# Altium footprint library PCB - CONNECTOR - SAMTEC - SAMTEC SSW-104-03-T-S.PCBLIB: 1 footprints
Each footprint in its own frame and in the unit in brackets; x right, y up, seen from the top. Pads: shape width x height; smd on the part's side, far side on the other; paste and mask are expansions set on the pad; w line width, h text height; cw(c..) or ccw(c..) is an arc to the next point about the centre after c.
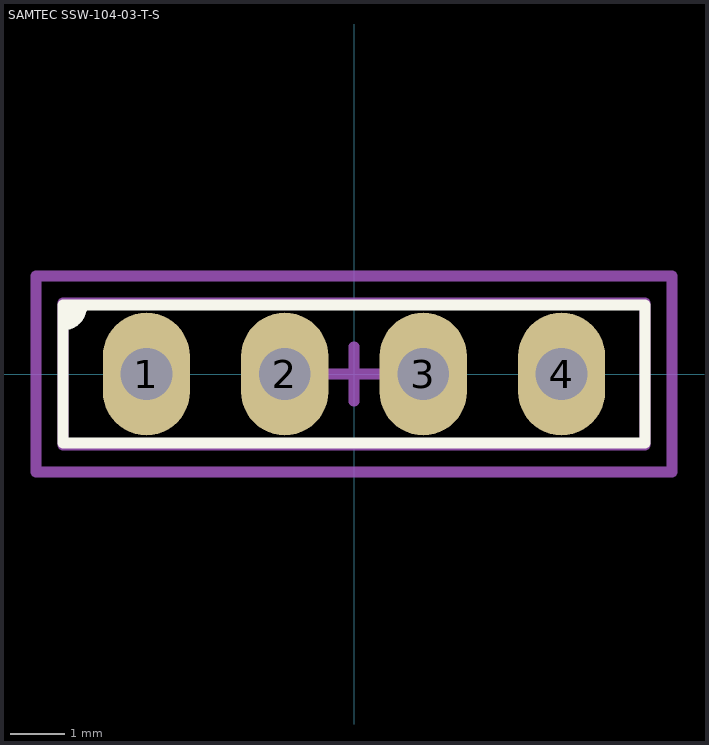
[diagram p0: the footprint, top view; thin cyan lines are the x and y axes]

## SAMTEC SSW-104-03-T-S [mm]
height 8.51
pads (4):
  oval 1.6x2.25 hole 0.95: 1(-3.81,0) 2(-1.27,0) 3(1.27,0) 4(3.81,0)
Top Overlay:
  region: -5.34,1.27 -5,1.27 -5,1.1 -5.2,0.9 -5.34,0.9
  lines w0.2: -5.34,0.9 ccw(c-5.34,1.24) -5,1.24 -5,1.27 ; -5.34,-1.27 5.34,-1.27 5.34,1.27 -5.34,1.27 -5.34,-1.27
Mechanical 13:
  lines w0.2: -5.34,-1.3 -5.34,1.3 5.34,1.3 5.34,-1.3 -5.34,-1.3
Mechanical 15:
  lines w0.2: -0.5,0 0.5,0 ; 0,-0.5 0,0.5 ; -5.84,-1.8 5.84,-1.8 5.84,1.8 -5.84,1.8 -5.84,-1.8
3D body "Samtec-SSW-104-03-T-S.STEP": height 8.51, standoff -10.01, extent -5.334,-1.206 5.334,1.207